# Altium schematic symbol library FXIMU.SchLib: 1 symbol
Pins are listed as number, name and electrical type; pins without a type are passive.

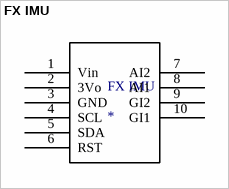
[diagram p0: symbol FX IMU]

## FX IMU
designator FX IMU
footprint FX IMU
pins: 1 Vin, 2 3Vo, 3 GND, 4 SCL, 5 SDA, 6 RST, 7 AI2, 8 AI1, 9 GI2, 10 GI1